# EAGLE library part SC64 (library FSAE Electric (Alexander Ray's conflicted copy 2016-04-02))
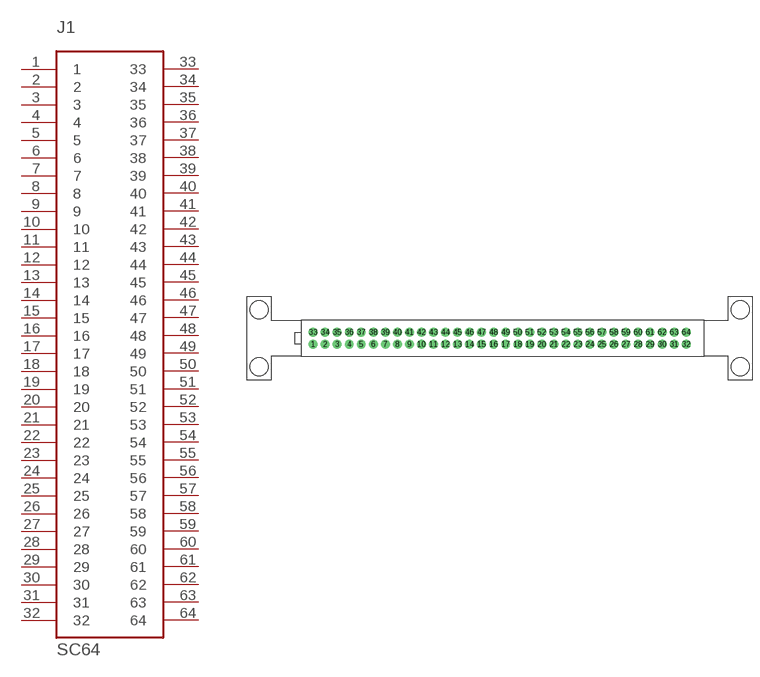
[diagram p33: symbol with the pads of CS64; footprint CS64]

Designator prefix J1

## SC64  [CS64]
1  1
2  2
3  3
4  4
5  5
6  6
7  7
8  8
9  9
10  10
11  11
12  12
13  13
14  14
15  15
16  16
17  17
18  18
19  19
20  20
21  21
22  22
23  23
24  24
25  25
26  26
27  27
28  28
29  29
30  30
31  31
32  32
33  33
34  34
35  35
36  36
37  37
38  38
39  39
40  40
41  41
42  42
43  43
44  44
45  45
46  46
47  47
48  48
49  49
50  50
51  51
52  52
53  53
54  54
55  55
56  56
57  57
58  58
59  59
60  60
61  61
62  62
63  63
64  64

## Footprint CS64 (pad centres in mm)
drill 1.016 pad 1.88: 1 -39.37,-1.27; 2 -36.83,-1.27; 3 -34.29,-1.27; 4 -31.75,-1.27; 5 -29.21,-1.27; 6 -26.67,-1.27; 7 -24.13,-1.27; 8 -21.59,-1.27; 9 -19.05,-1.27; 10 -16.51,-1.27; 11 -13.97,-1.27; 12 -11.43,-1.27; 13 -8.89,-1.27; 14 -6.35,-1.27; 15 -3.81,-1.27; 16 -1.27,-1.27; 17 1.27,-1.27; 18 3.81,-1.27; 19 6.35,-1.27; 20 8.89,-1.27; 21 11.43,-1.27; 22 13.97,-1.27; 23 16.51,-1.27; 24 19.05,-1.27; 25 21.59,-1.27; 26 24.13,-1.27; 27 26.67,-1.27; 28 29.21,-1.27; 29 31.75,-1.27; 30 34.29,-1.27; 31 36.83,-1.27; 32 39.37,-1.27; 33 -39.37,1.27; 34 -36.83,1.27; 35 -34.29,1.27; 36 -31.75,1.27; 37 -29.21,1.27; 38 -26.67,1.27; 39 -24.13,1.27; 40 -21.59,1.27; 41 -19.05,1.27; 42 -16.51,1.27; 43 -13.97,1.27; 44 -11.43,1.27; 45 -8.89,1.27; 46 -6.35,1.27; 47 -3.81,1.27; 48 -1.27,1.27; 49 1.27,1.27; 50 3.81,1.27; 51 6.35,1.27; 52 8.89,1.27; 53 11.43,1.27; 54 13.97,1.27; 55 16.51,1.27; 56 19.05,1.27; 57 21.59,1.27; 58 24.13,1.27; 59 26.67,1.27; 60 29.21,1.27; 61 31.75,1.27; 62 34.29,1.27; 63 36.83,1.27; 64 39.37,1.27
hole 3.81 at -50.8,-6.007
hole 3.81 at -50.8,6.007
hole 3.81 at 50.8,6.007
hole 3.81 at 50.8,-6.007